# Altium schematic symbol library DAQ.SchLib: 78 symbols (part 2 of 3)
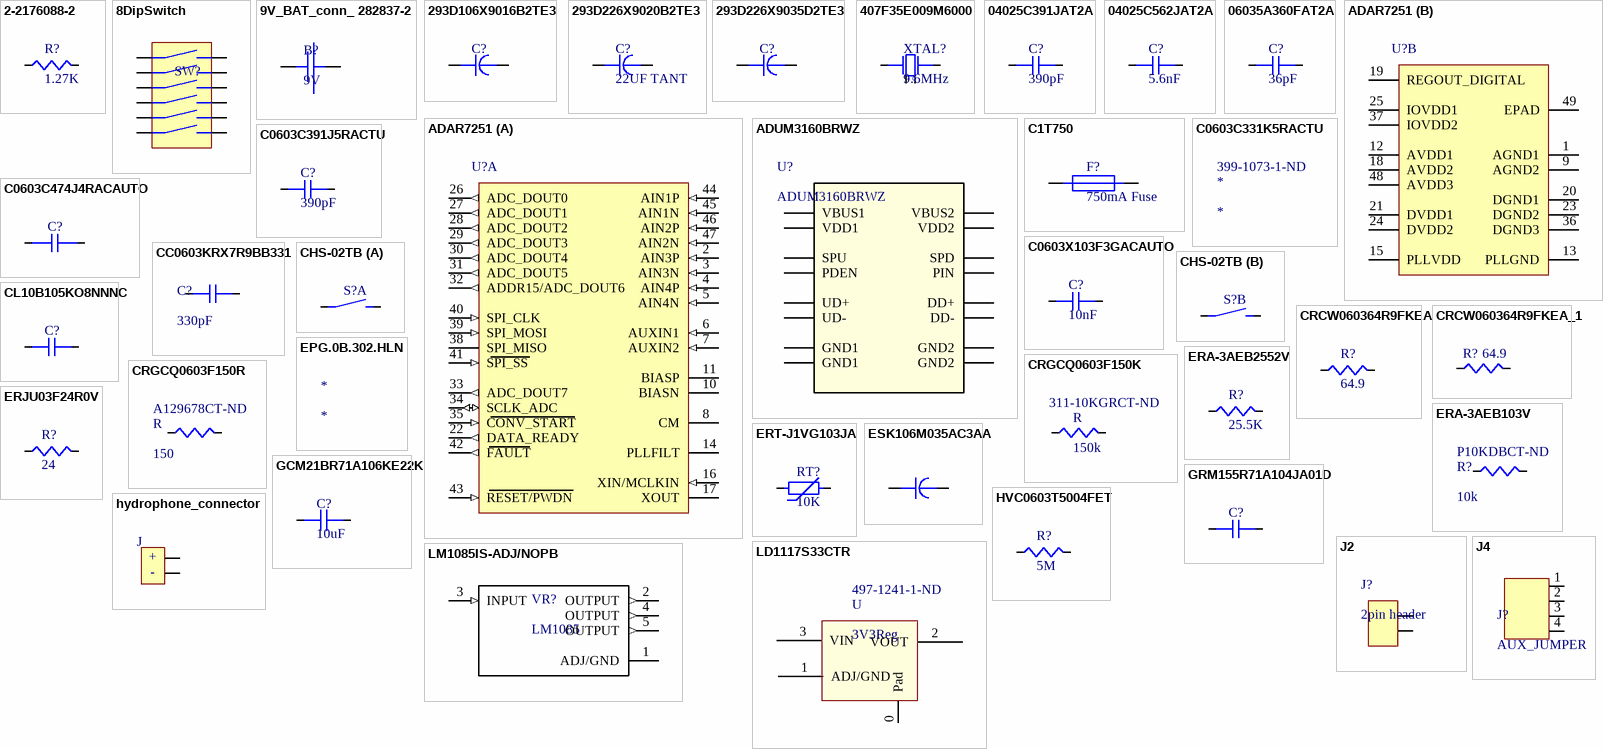
[diagram p3: symbols 2-2176088-2 to LM1085IS-ADJ/NOPB]

## ERJU03F24R0V
designator R?, comment 24
Thick Film Resistors - SMD 0603 1% 24ohm Anti-Sulfur AEC-Q200; Manufacturer 1: Panasonic; Manufacturer Part Number 1: ERJU03F24R0V; Temperature Coefficient: 100ppm/°C; Current Rating: 1A; Voltage Rating (DC): 75V; Power Rating: 100mW; Resistance: 24R; Supplier 1: Digi-Key; Supplier Part Number 1: 10-ERJ-U03F24R0VCT-ND; RoHS: Yes; Category: Chip SMD Resistors; Stock 1: 298; Pricing 1: 1=0.13000, 10=0.11400, 100=0.04400, 1000=0.01936, 2500=0.01672 (USD); Case/Package: 0603; Case Code (Imperial): 0603; Case Code (Metric): 1608; Weight: 7.1E-05oz; Min Operating Temperature: -55°C; Max Operating Temperature: 155°C; Tolerance: 1%; Voltage Rating: 75V; Packaging: Tape and Reel; Package Quantity: 5000; Resistor Type: Thick Film; Termination: SMD/SMT; Length: 1.6mm; Width: 0.8mm; Height: 0.45mm; Depth: 0.8mm; REACH SVHC: No SVHC; ComponentLink1URL: https://datasheet.ciiva.com/24124/ras-erj-u-267552-24124922.pdf?src-supplier=Mouser; ComponentLink1Description: https://datasheet.ciiva.com/24124/ras-erj-u-267552-24124922.pdf?src-supplier=Mouser; ComponentLink2URL: https://datasheet.ciiva.com/6201/1638979-6201577.pdf?src-supplier=Farnell; ComponentLink2Description: https://datasheet.ciiva.com/6201/1638979-6201577.pdf?src-supplier=Farnell
footprint C0603
pins: 1, 2

## ERT-J1VG103JA
designator RT?, comment 10K
Thermistor NTC 10KOhm 5% 2-Pin 0603 Punched Carrier T/R; Manufacturer 1: Panasonic; Manufacturer Part Number 1: ERT-J1VG103JA; Max Power Dissipation: 100mW; Accuracy: 1%; Resistance: 10kR; Supplier 1: Digi-Key; Supplier Part Number 1: P12014CT-ND; Stock 1: 47318; Pricing 1: 1=0.15000, 5=0.14600, 10=0.13000, 25=0.12000, 50=0.09600, 100=0.08240, 500=0.07208, 1000=0.06178 (USD); RoHS: Yes; Mount: Surface Mount; Case/Package: 0603; Number of Pins: 2; Case Code (Metric): 1608; Case Code (Imperial): 0603; Min Operating Temperature: -40°C; Max Operating Temperature: 125°C; Termination: SMD/SMT; Packaging: Tape and Reel; Tolerance: 5%; Package Quantity: 4000; Length: 1.6mm; Depth: 0.8mm; Width: 800um; Radiation Hardening: No; Lead Free: Lead Free; REACH SVHC: No SVHC; ComponentLink1URL: https://datasheet.ciiva.com/1303/1314428-1303168.pdf?src-supplier=Farnell; ComponentLink1Description: https://datasheet.ciiva.com/1303/1314428-1303168.pdf?src-supplier=Farnell; ComponentLink2URL: https://datasheet.ciiva.com/30067/aua0000ce1-30067157.pdf?src-supplier=Onlinecomponents.com; ComponentLink2Description: https://datasheet.ciiva.com/30067/aua0000ce1-30067157.pdf?src-supplier=Onlinecomponents.com; ComponentLink3URL: https://datasheet.ciiva.com/46376/1314428-46376550.pdf?src-supplier=Element14; ComponentLink3Description: https://datasheet.ciiva.com/46376/1314428-46376550.pdf?src-supplier=Element14; ComponentLink4URL: https://datasheet.ciiva.com/2848/aua0000ce1-2848556.pdf?src-supplier=Digi-Key; ComponentLink4Description: https://datasheet.ciiva.com/2848/aua0000ce1-2848556.pdf?src-supplier=Digi-Key; ComponentLink5URL: https://datasheet.ciiva.com/16394/aua0000ce1-16394028.pdf?src-supplier=Future+Electronics; ComponentLink5Description: https://datasheet.ciiva.com/16394/aua0000ce1-16394028.pdf?src-supplier=Future+Electronics; ComponentLink6URL: https://datasheet.ciiva.com/46388/1314428-46388812.pdf?src-supplier=Element14; ComponentLink6Description: https://datasheet.ciiva.com/46388/1314428-46388812.pdf?src-supplier=Element14; ComponentLink7URL: https://datasheet.ciiva.com/2848/aua0000ce1-2848557.pdf?src-supplier=Digi-Key; ComponentLink7Description: https://datasheet.ciiva.com/2848/aua0000ce1-2848557.pdf?src-supplier=Digi-Key; ComponentLink8URL: https://datasheet.ciiva.com/2848/aua0000ce1-2848558.pdf?src-supplier=Digi-Key; ComponentLink8Description: https://datasheet.ciiva.com/2848/aua0000ce1-2848558.pdf?src-supplier=Digi-Key; ComponentLink9URL: https://datasheet.ciiva.com/3280/aua0000ce1-3280462.pdf?src-supplier=Avnet; ComponentLink9Description: https://datasheet.ciiva.com/3280/aua0000ce1-3280462.pdf?src-supplier=Avnet
footprint R0603
pins: 1, 2

## ESK106M035AC3AA
designator ?, comment 10uF  (value not drawn)
CAP ALUM 10UF 20% 35V RADIAL; Dielectric Material: Aluminium; Voltage Rating: 16V; Ripple Current: 23mA; Leakage Current: 3uA; Life (Hours): 2000Hour; Dissipation Factor: 0.16%; RoHS: Yes; Mount: Surface Mount,PCB; Case/Package: Radial; Number of Pins: 2; Weight: 0.01lb; Min Operating Temperature: -40°C; Max Operating Temperature: 85°C; Package Quantity: 1; Capacitance: 10uF; Tolerance: 20%; Packaging: Tape and Reel; Voltage Rating (DC): 16V; Ripple Current (AC): 23mA; Termination: SMD/SMT; Voltage: 16V; Diameter: 4mm; Length: 5.4mm; Height: 5.4mm; Width: 4.3mm; Height - Seated (Max): 0.213inch; Radiation Hardening: No; REACH SVHC: No SVHC; Lead Free: Lead Free; ComponentLink1Description: digikey; ComponentLink1URL: https://www.digikey.com/product-detail/en/kemet/ESK106M035AC3AA/399-6598-ND/3083013
footprint ESK106M035AC3AA; pin to pad 5>2
pins: 1, 5

## GCM21BR71A106KE22K
designator C?, comment 10uF
CAP CER 10UF 10V X7R 0805; Manufacturer 1: Murata; Manufacturer Part Number 1: GCM21BR71A106KE22K; Tolerance: 10%; Supplier 1: Digi-Key; Supplier Part Number 1: 490-14531-1-ND; Stock 1: 78878; Pricing 1: 1=0.57000, 10=0.40300, 100=0.26540, 500=0.19658, 1000=0.16709, 2500=0.15726, 5000=0.14744 (USD); RoHS: Yes; Mount: Surface Mount; Case/Package: 0805; Weight: 0.000335oz; Case Code (Imperial): 0805; Case Code (Metric): 2012; Min Operating Temperature: -55°C; Max Operating Temperature: 125°C; Packaging: Tape and Reel; Capacitance: 10uF; Voltage Rating: 10V; Dielectric: X7R; Termination: SMD/SMT; Voltage Rating (DC): 10V; Package Quantity: 10000; Length: 0.079inch; Height: 1.25mm; Width: 1.25mm; Thickness: 0.055inch; Ratings: AEC-Q200; ComponentLink1URL: http://www.mouser.com/ds/2/281/c03e-806517.pdf?src-supplier=Mouser; ComponentLink1Description: http://www.mouser.com/ds/2/281/c03e-806517.pdf?src-supplier=Mouser; ComponentLink2URL: http://search.murata.co.jp/Ceramy/image/img/A01X/G101/ENG/GCM21BR71A106KE22-01.pdf?src-supplier=Digi-Key; ComponentLink2Description: http://search.murata.co.jp/Ceramy/image/img/A01X/G101/ENG/GCM21BR71A106KE22-01.pdf?src-supplier=Digi-Key; ComponentLink3URL: http://search.murata.co.jp/Ceramy/image/img/A01X/partnumbering_e_02.pdf?src-supplier=Digi-Key; ComponentLink3Description: http://search.murata.co.jp/Ceramy/image/img/A01X/partnumbering_e_02.pdf?src-supplier=Digi-Key
footprint C0805
pins: 1, 2

## GRM155R71A104JA01D
designator C?, comment .1uF  (value not drawn)
0402 0.1 uF 10 V ±5% Tolerance X7R SMT Multilayer Ceramic Capacitor; Manufacturer 1: Murata; Manufacturer Part Number 1: GRM155R71A104JA01D; Capacitance: 100nF; Voltage Rating: 10V; Supplier 1: Digi-Key; Supplier Part Number 1: 490-10777-1-ND; Stock 1: 1113659; Pricing 1: 1=0.10000, 10=0.02800, 100=0.01240, 500=0.00886, 1000=0.00696, 2500=0.00632, 5000=0.00582 (USD); RoHS: Yes; Mount: Surface Mount; Case/Package: 0402; Case Code (Imperial): 0402; Case Code (Metric): 1005; Min Operating Temperature: -55°C; Max Operating Temperature: 125°C; Tolerance: 5%; Packaging: Tape and Reel; Voltage Rating (DC): 10V; Package Quantity: 10000; Dielectric: X7R; Termination: SMD/SMT; Length: 1mm; Height: 0.5mm; Width: 0.02inch; Thickness: 0.022inch; Depth: 0.5mm; Radiation Hardening: No; Lead Free: Lead Free; ComponentLink1URL: https://datasheet.ciiva.com/5411/product-5411135.pdf?src-supplier=Mouser; ComponentLink1Description: https://datasheet.ciiva.com/5411/product-5411135.pdf?src-supplier=Mouser; ComponentLink2URL: https://datasheet.ciiva.com/11618/c02e-11618821.pdf?src-supplier=Avnet; ComponentLink2Description: https://datasheet.ciiva.com/11618/c02e-11618821.pdf?src-supplier=Avnet
footprint C0402
pins: 1, 2

## HVC0603T5004FET
designator R?, comment 5M
RES SMD 5M OHM 1% 1/10W 0603; Manufacturer 1: Vishay Dale; Manufacturer Part Number 1: TNPW06031K00BEEA; Resistance: 1kR; Temperature Coefficient: 25ppm/°C; Power Rating: 100mW; Voltage Rating: 75V; Stock 1: 92047; Pricing 1: 1=0.65000, 10=0.46200, 100=0.24020, 1000=0.12936, 2500=0.12760 (USD); RoHS: Yes; Mount: Surface Mount; Case/Package: 0603; Weight: 7.1E-05oz; Contact Plating: Tin; Case Code (Metric): 1608; Case Code (Imperial): 0603; Min Operating Temperature: -55°C; Max Operating Temperature: 125°C; Tolerance: 1%; Composition: Thin Film; Packaging: Tape and Reel; Package Quantity: 1; Number of Terminations: 2; Termination: SMD/SMT; Military Standard: Not; Max Power Dissipation: 100mW; Voltage Rating (DC): 75V; Features: Moisture Resistant,Automotive AEC-Q200,Anti-Sulfur; Length: 1.6mm; Height: 0.45mm; Width: 0.033inch; Depth: 0.85mm; Radiation Hardening: No; REACH SVHC: Unknown; Lead Free: Lead Free; ComponentLink1URL: https://datasheet.ciiva.com/2528/tnpw-e3-2528472.pdf?src-supplier=Digi-Key; ComponentLink1Description: https://datasheet.ciiva.com/2528/tnpw-e3-2528472.pdf?src-supplier=Digi-Key; ComponentLink2URL: https://datasheet.ciiva.com/2528/tnpw-e3-2528473.pdf?src-supplier=Digi-Key; ComponentLink2Description: https://datasheet.ciiva.com/2528/tnpw-e3-2528473.pdf?src-supplier=Digi-Key; ComponentLink3URL: https://datasheet.ciiva.com/9112/tnpw-e3-9112138.pdf?src-supplier=Avnet; ComponentLink3Description: https://datasheet.ciiva.com/9112/tnpw-e3-9112138.pdf?src-supplier=Avnet; ComponentLink4URL: https://datasheet.ciiva.com/16391/tnpw-e3-16391675.pdf?src-supplier=Future+Electronics; ComponentLink4Description: https://datasheet.ciiva.com/16391/tnpw-e3-16391675.pdf?src-supplier=Future+Electronics; ComponentLink5URL: https://datasheet.ciiva.com/9112/tnpw-e3-9112141.pdf?src-supplier=Avnet; ComponentLink5Description: https://datasheet.ciiva.com/9112/tnpw-e3-9112141.pdf?src-supplier=Avnet; ComponentLink6URL: https://datasheet.ciiva.com/16782/70201627-16782047.pdf?src-supplier=Allied+Electronics; ComponentLink6Description: https://datasheet.ciiva.com/16782/70201627-16782047.pdf?src-supplier=Allied+Electronics; Supplier 1: Digi-Key; Supplier Part Number 1: HVC0603T5004FETCT-ND
footprint R0603
pins: 1, 2

## hydrophone_connector
designator J, comment J  (value not drawn)
Supplier 1: Digi-Key; Supplier Part Number 1: WM5378-ND; Supplier 2: Digi-Key; Supplier Part Number 2: WM8552-ND
footprint hydrophones_sma_conn
footprint 0731310240 (CONN BNC RCPT R/A 50 OHM PCB)
footprint EPC.00.250.NTN (NIM-CAMAC CD/N 549 Connector Receptacle, Female Socket 50Ohm Through Hole Solder)
pins: 1, 2
text: +; -

## J2
designator J?, comment 2pin header
footprint HEADERPINS_2x1
pins: 1, 2

## J4
designator J?, comment AUX_JUMPER
Connector Type: USB; Number of Contacts: 5; Gender: Receptacle; USB Standard: USB 2.0; Current Rating: 1.8A; Mating Cycles: 10000; Supplier 1: Digi-Key; Supplier Part Number 1: SAM10843-ND; Supplier 2: Digi-Key; Supplier Part Number 2: H125270CT-ND; Manufacturer 2: Hirose; Manufacturer Part Number 2: ZX62-B-5PA(33); RoHS: Yes; Category: Connectors; Stock 2: 13469; Pricing 2: 1=0.84000, 10=0.79200, 25=0.71280, 50=0.63360, 100=0.60720, 250=0.55440, 500=0.52800, 1000=0.43560 (USD); Mount: Surface Mount,Horizontal; Contact Material: Copper Alloy; Contact Plating: Gold; Packaging: Tape and Reel; Orientation: Right Angle; REACH SVHC: Unknown; Lead Free: Lead Free; ComponentLink1URL: http://www.farnell.com/datasheets/2691174.pdf?src-supplier=Farnell; ComponentLink1Description: http://www.farnell.com/datasheets/2691174.pdf?src-supplier=Farnell; ComponentLink2URL: http://www.farnell.com/datasheets/2691174.pdf?src-supplier=Element14; ComponentLink2Description: http://www.farnell.com/datasheets/2691174.pdf?src-supplier=Element14; ComponentLink3URL: https://www.hirose.com/product/en/download_file/key_name/ZX62-B-5PA%2833%29/category/Specification%20Sheet/doc_file_id/87473/?file_category_id=9&item_id=02420033833&is_series=&src-supplier=Digi-Key; ComponentLink3Description: https://www.hirose.com/product/en/download_file/key_name/ZX62-B-5PA%2833%29/category/Specification%20Sheet/doc_file_id/87473/?file_category_id=9&item_id=02420033833&is_series=&src-supplier=Digi-Key; ComponentLink4URL: http://www.farnell.com/datasheets/2060515.pdf?src-supplier=Element14; ComponentLink4Description: http://www.farnell.com/datasheets/2060515.pdf?src-supplier=Element14; ComponentLink5URL: http://www.farnell.com/datasheets/2691174.pdf?src-supplier=Newark; ComponentLink5Description: http://www.farnell.com/datasheets/2691174.pdf?src-supplier=Newark
footprint HEADERPINS_2x2
footprint headerPins_4x1
pins: 1 GND, 2 3V3, 3 SDA, 4 SCL

## LD1117S33CTR
designator U, comment 3V3Reg  Supplier Part Number 1: 497-1241-1-ND
STMICROELECTRONICS         LD1117S33CTR            Fixed LDO Voltage Regulator, 5.3V to 15V, 1.1V Dropout, 3.3Vout, 950mAout, SOT-223-4; Number of Outputs: 1; Output Voltage: 3.3V; Output Current: 950mA; Max Output Current: 1.3A; Max Power Dissipation: 12W; Input Bias Current: 5mA; Polarity: Positive; Quiescent Current: 10mA; Accuracy: 1%; Supplier 1: Digi-Key; Manufacturer 1: STMicroelectronics; Manufacturer Part Number 1: LD1117S33CTR; Stock 1: 43539; Pricing 1: 1=0.41000, 10=0.35100, 100=0.26180, 500=0.20570, 1000=0.15895 (USD); RoHS: Yes; Mount: Surface Mount; Case/Package: SOT-223; Number of Pins: 4; Weight: 0.01lb; Number of Terminals: 4; Contact Plating: Tin,Matte; Min Operating Temperature: -40°C; Max Operating Temperature: 125°C; Packaging: Tape and Reel; Min Input Voltage: 5.3V; Dropout Voltage: 1.1V; Nominal Output Voltage: 3.3V; Max Input Voltage: 15V; Package Quantity: 1; Max Supply Voltage: 15V; Min Supply Voltage: 3.3V; Number of Regulators: 1; Min Output Voltage: 3.3V; Power Dissipation: 12W; Max Output Voltage: 3.3V; Termination: SMD/SMT; Output Voltage Accuracy: 1%; Output Type: Fixed; Length: 6.5mm; Height: 1.8mm; Width: 3.5mm; Radiation Hardening: No; REACH SVHC: No SVHC; Lead Free: Lead Free; ComponentLink1URL: https://datasheet.ciiva.com/19480/1390223-19480586.pdf?src-supplier=Jameco; ComponentLink1Description: https://datasheet.ciiva.com/19480/1390223-19480586.pdf?src-supplier=Jameco; ComponentLink2URL: https://datasheet.ciiva.com/1511/1776449-1511572.pdf?src-supplier=Element14; ComponentLink2Description: https://datasheet.ciiva.com/1511/1776449-1511572.pdf?src-supplier=Element14; ComponentLink3URL: https://datasheet.ciiva.com/16392/cd00000544-16392069.pdf?src-supplier=Future+Electronics; ComponentLink3Description: https://datasheet.ciiva.com/16392/cd00000544-16392069.pdf?src-supplier=Future+Electronics; ComponentLink4URL: https://datasheet.ciiva.com/2041/cd00000544-2041932.pdf?src-supplier=Digi-Key; ComponentLink4Description: https://datasheet.ciiva.com/2041/cd00000544-2041932.pdf?src-supplier=Digi-Key; ComponentLink5URL: https://datasheet.ciiva.com/7992/1776449-7992620.pdf?src-supplier=Element14; ComponentLink5Description: https://datasheet.ciiva.com/7992/1776449-7992620.pdf?src-supplier=Element14; ComponentLink6URL: https://datasheet.ciiva.com/2041/cd00000544-2041933.pdf?src-supplier=Digi-Key; ComponentLink6Description: https://datasheet.ciiva.com/2041/cd00000544-2041933.pdf?src-supplier=Digi-Key; ComponentLink7URL: https://datasheet.ciiva.com/2041/cd00000544-2041934.pdf?src-supplier=Digi-Key; ComponentLink7Description: https://datasheet.ciiva.com/2041/cd00000544-2041934.pdf?src-supplier=Digi-Key
footprint *SOT223; pin to pad 0>4
pins: 0 Pad, 1 ADJ/GND (power), 2 VOUT (power), 3 VIN (power)

## LM1085IS-ADJ/NOPB
designator VR?, comment LM1085
TEXAS INSTRUMENTS         LM1085IS-ADJ/NOPB            LDO Voltage Regulator, Adjustable, 2.6V to 27V in, 1.3V drop, 1.2V to 15V/3A out, TO-263-3; Manufacturer 1: TI National Semiconductor; Number of Outputs: 1; Max Input Voltage: 29V; Max Output Current: 3A; Output Voltage: 15V; Quiescent Current: 10mA; Polarity: Positive; Min Current Limit: 3.2A; Reference Voltage: 1.262V; Supplier 1: Digi-Key; Supplier Part Number 1: LM1085IS-ADJ/NOPB-ND; Manufacturer Part Number 1: LM1085IS-ADJ/NOPB; Stock 1: 3132; Pricing 1: 1=2.36000, 10=2.11700, 25=1.99760, 100=1.70190, 500=1.39826, 1000=1.15855, 2500=1.07865, 5000=1.03870 (USD); RoHS: Yes; Mount: Surface Mount; Case/Package: TO-263; Number of Pins: 3; Weight: 0.25lb; Contact Plating: Tin,Matte; Min Operating Temperature: -40°C; Max Operating Temperature: 125°C; Packaging: Rail/Tube; Min Input Voltage: 2.6V; Output Current: 3A; Output Type: Adjustable; Dropout Voltage: 1.3V; Package Quantity: 45; Number of Regulators: 1; Current Rating: 3A; Min Output Voltage: 1.2V; Max Output Voltage: 15V; Length: 10.16mm; Height: 4.57mm; Width: 8.64mm; Radiation Hardening: No; Lead Free: Contains Lead; REACH SVHC: No SVHC; ComponentLink1URL: https://datasheet.ciiva.com/15111/getdatasheetpartid-42877-15111009.pdf?src-supplier=Verical; ComponentLink1Description: https://datasheet.ciiva.com/15111/getdatasheetpartid-42877-15111009.pdf?src-supplier=Verical; ComponentLink2URL: https://datasheet.ciiva.com/19473/835622-19473869.pdf?src-supplier=Jameco; ComponentLink2Description: https://datasheet.ciiva.com/19473/835622-19473869.pdf?src-supplier=Jameco; ComponentLink3URL: https://datasheet.ciiva.com/1511/1886048-1511680.pdf?src-supplier=Element14; ComponentLink3Description: https://datasheet.ciiva.com/1511/1886048-1511680.pdf?src-supplier=Element14; ComponentLink4URL: https://datasheet.ciiva.com/3223/lm1085-3223479.pdf?src-supplier=Avnet; ComponentLink4Description: https://datasheet.ciiva.com/3223/lm1085-3223479.pdf?src-supplier=Avnet; ComponentLink5URL: https://datasheet.ciiva.com/6595/lm1085-6595273.pdf?src-supplier=Digi-Key; ComponentLink5Description: https://datasheet.ciiva.com/6595/lm1085-6595273.pdf?src-supplier=Digi-Key
footprint TO254P1435X464-4N
pins: 1 ADJ/GND, 2 OUTPUT (out), 3 INPUT (in), 4 OUTPUT (out), 5 OUTPUT (out)

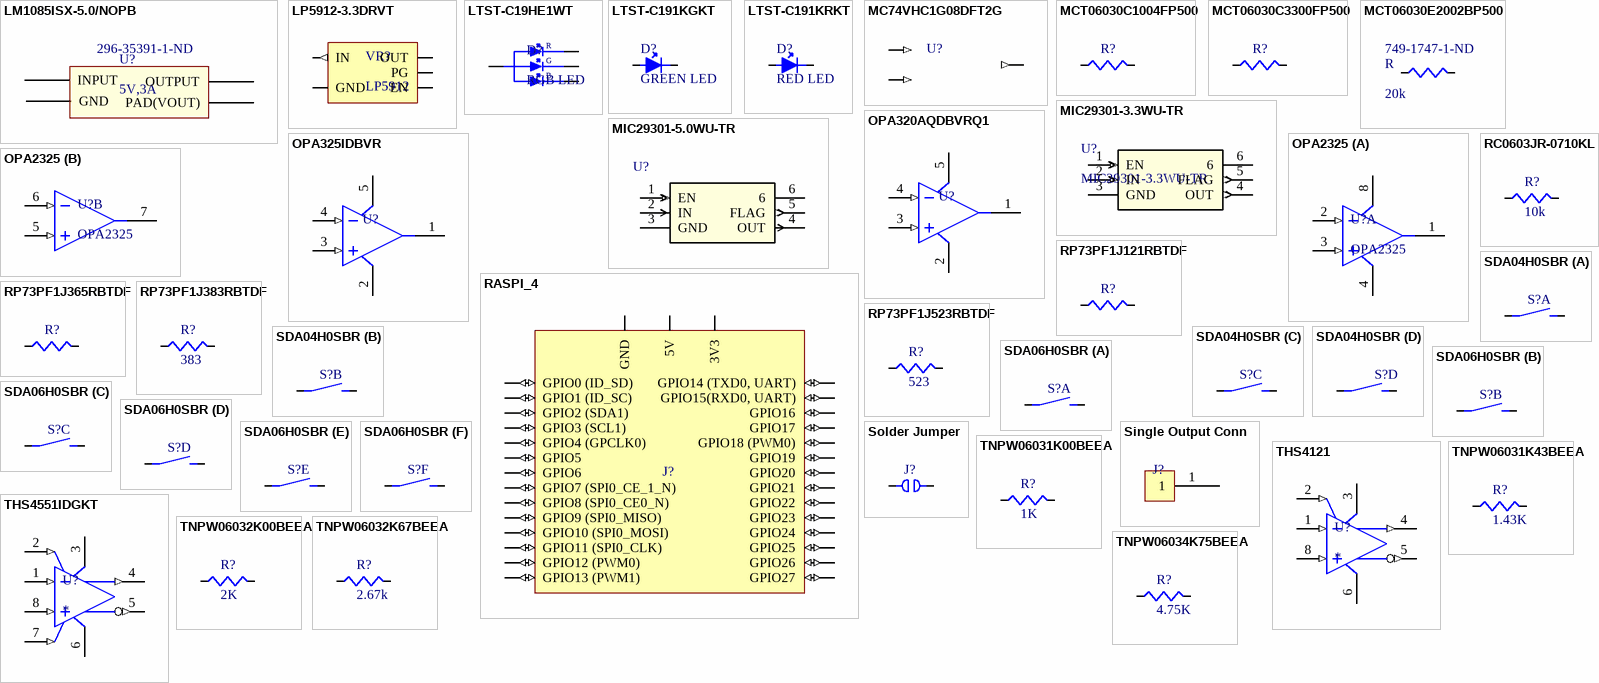
[diagram p1: symbols LM1085ISX-5.0/NOPB to TNPW06034K75BEEA]

## LM1085ISX-5.0/NOPB
designator U?, comment 5V,3A  Supplier Part Number 1: 296-35391-1-ND
LDO Regulator Pos 5V 3A 4-Pin(3+Tab) TO-263 T/R; Manufacturer 1: TI National Semiconductor; Manufacturer Part Number 1: LM1085ISX-5.0/NOPB; Number of Outputs: 1; Min Input Voltage: 2.6V; Max Input Voltage: 25V; Quiescent Current: 10mA; Polarity: Positive; Output Type: Fixed; Dropout Voltage: 1.3V; Min Current Limit: 3.2A; Supplier 1: Digi-Key; Stock 1: 2741; Pricing 1: 1=1.97000, 10=1.77300, 100=1.42500 (USD); RoHS: Yes; Mount: Surface Mount; Case/Package: TO-263; Number of Pins: 3; Contact Plating: Tin; Min Operating Temperature: -40°C; Max Operating Temperature: 125°C; Output Voltage: 5V; Max Output Current: 3A; Packaging: Tape and Reel; Output Current: 3A; Package Quantity: 500; Number of Regulators: 1; Nominal Output Voltage: 5V; Radiation Hardening: No; Lead Free: Contains Lead; REACH SVHC: No SVHC; ComponentLink1URL: https://datasheet.ciiva.com/41457/001013600-da-01-en-ic-reg-l-lm1085isx-5-0-nopb-to-263-3-tid-41457355.pdf?src-supplier=Conrad; ComponentLink1Description: https://datasheet.ciiva.com/41457/001013600-da-01-en-ic-reg-l-lm1085isx-5-0-nopb-to-263-3-tid-41457355.pdf?src-supplier=Conrad; ComponentLink2URL: https://datasheet.ciiva.com/6582/lm1085-6582713.pdf?src-supplier=Digi-Key; ComponentLink2Description: https://datasheet.ciiva.com/6582/lm1085-6582713.pdf?src-supplier=Digi-Key; ComponentLink3URL: https://datasheet.ciiva.com/3223/lm1085-3223481.pdf?src-supplier=Avnet; ComponentLink3Description: https://datasheet.ciiva.com/3223/lm1085-3223481.pdf?src-supplier=Avnet
footprint *TO254P1435X464-4N_5V; pin to pad 0>4
pins: 0 PAD(VOUT) (power), 1 GND (power), 2 OUTPUT (power), 3 INPUT (power)

## LP5912-3.3DRVT
designator VR?, comment LP5912
IC REG LINEAR 3.3V 500MA 6SON; Manufacturer 1: Texas Instruments; Manufacturer Part Number 1: LP5912-3.3DRVT; Dropout Voltage: 950mV; Quiescent Current: 30uA; Number of Regulators: 1; Supplier 1: Digi-Key; Supplier Part Number 1: 296-44153-1-ND; Stock 1: 2229; Pricing 1: 1=1.38000, 10=1.23100, 100=0.95940 (USD); RoHS: Yes; Mount: Surface Mount; Number of Pins: 6; Min Operating Temperature: -40°C; Max Operating Temperature: 125°C; Output Current: 500mA; Packaging: Tape and Reel; Output Voltage: 3.3V; Lead Free: Lead Free; ComponentLink1URL: http://www.ti.com/lit/ds/symlink/lp5912.pdf?src-supplier=Digi-Key; ComponentLink1Description: http://www.ti.com/lit/ds/symlink/lp5912.pdf?src-supplier=Digi-Key; ComponentLink2URL: http://www.ti.com/lit/ds/symlink/lp5912.pdf?src-supplier=Farnell; ComponentLink2Description: http://www.ti.com/lit/ds/symlink/lp5912.pdf?src-supplier=Farnell; ComponentLink3URL: http://www.ti.com/general/docs/lit/getliterature.tsp?genericPartNumber=LP5912&amp;&amp;fileType=pdf&src-supplier=Element14; ComponentLink3Description: http://www.ti.com/general/docs/lit/getliterature.tsp?genericPartNumber=LP5912&amp;&amp;fileType=pdf&src-supplier=Element14
footprint *SON65P200X200X80-7N_LP5912-3.3DRVT(Primary)
pins: 1 OUT, 3 PG, 4 EN, 5 GND, 6 IN (out)

## LTST-C19HE1WT
designator D?, comment RGB LED
Lite-On LTST-C19HE1WT, LTST Series 3 RGB LED, 470 / 525 / 624 nm 3-Pin, Rectangle Lens SMD package; Manufacturer 1: Vishay Lite-On; Color: Blue,Green,Red; Lens Color: White; Forward Current: 20mA; Forward Voltage: 3.35V; Luminous Intensity: 180mcd; Viewing Angle: 130°; Lens Style: Diffused,Colorless,Rectangular; Lens Transparency: Diffused; Dominant Wavelength: 470nm; Number of Elements: 3; Reverse Voltage: 5V; Supplier 1: Digi-Key; Supplier Part Number 1: 160-2162-1-ND; Manufacturer Part Number 1: LTST-C19HE1WT; Stock 1: 98926; Pricing 1: 1=0.56000, 10=0.40500, 100=0.26440, 500=0.19008, 1000=0.14875 (USD); RoHS: Yes; Mount: Surface Mount; Case/Package: 0606; Number of Pins: 4; Case Code (Metric): 1616; Case Code (Imperial): 0606; Min Operating Temperature: -20°C; Max Operating Temperature: 80°C; Packaging: Tape and Reel; Package Quantity: 3000; Test Current: 20mA; Number of LEDs: 3; Length: 1.6mm; Height: 0.35mm; Width: 1.6mm; Depth: 1.6mm; Radiation Hardening: No; Lead Free: Lead Free; ComponentLink1URL: https://datasheet.ciiva.com/11773/0900766b80dc0566-11773828.pdf?src-supplier=RSComponents; ComponentLink1Description: https://datasheet.ciiva.com/11773/0900766b80dc0566-11773828.pdf?src-supplier=RSComponents; ComponentLink2URL: https://datasheet.ciiva.com/41805/s-110-ltst-c19he1wt-41805918.pdf?src-supplier=Digi-Key; ComponentLink2Description: https://datasheet.ciiva.com/41805/s-110-ltst-c19he1wt-41805918.pdf?src-supplier=Digi-Key
footprint rgb_led_LTST-C19HE1WT
pins: 1 R-, 2 B-, 3 G-, 4 +
text: R; G; B

## LTST-C191KGKT
designator D?, comment GREEN LED
LED Uni-Color Green 574nm 2-Pin Chip LED T/R; Manufacturer 1: Vishay Lite-On; Manufacturer Part Number 1: LTST-C191KGKT; Lens Color: Colorless; Luminous Intensity: 35mcd; Viewing Angle: 130°; Forward Voltage: 2V; Dominant Wavelength: 571nm; Test Current: 20mA; Lens Transparency: Clear; Lens Style: Diffused,Colorless,Rectangular,Clear; Forward Current: 30mA; Number of Elements: 1; Power Dissipation: 75mW; Reverse Voltage: 5V; Supplier 1: Digi-Key; Supplier Part Number 1: 160-1446-1-ND; Stock 1: 1002642; Pricing 1: 1=0.28000, 10=0.20100, 100=0.09540, 500=0.06364, 1000=0.04984, 2500=0.04878 (USD); RoHS: Yes; Mount: Surface Mount; Case/Package: 0603; Number of Pins: 2; Color: Green; Case Code (Metric): 1608; Case Code (Imperial): 0603; Min Operating Temperature: -55°C; Max Operating Temperature: 85°C; Packaging: Tape and Reel; Package Quantity: 1; Wavelength: 574nm; Illumination Color: Green; Number of LEDs: 1; Power Rating: 75mW; Length: 1.6mm; Height: 0.55mm; Width: 0.8mm; Depth: 0.8mm; Radiation Hardening: No; Lead Free: Lead Free; ComponentLink1URL: https://datasheet.ciiva.com/12400/100-ltst-c191kgkt-53586-12400818.pdf?src-supplier=Mouser; ComponentLink1Description: https://datasheet.ciiva.com/12400/100-ltst-c191kgkt-53586-12400818.pdf?src-supplier=Mouser; ComponentLink2URL: https://datasheet.ciiva.com/11773/0900766b80dc02b1-11773629.pdf?src-supplier=RSComponents; ComponentLink2Description: https://datasheet.ciiva.com/11773/0900766b80dc02b1-11773629.pdf?src-supplier=RSComponents; ComponentLink3URL: https://datasheet.ciiva.com/16215/ltst-c191kgkt-16215151.pdf?src-supplier=Future+Electronics; ComponentLink3Description: https://datasheet.ciiva.com/16215/ltst-c191kgkt-16215151.pdf?src-supplier=Future+Electronics; ComponentLink4URL: https://datasheet.ciiva.com/2109/s-110-ltst-c191kgkt-2109973.pdf?src-supplier=Digi-Key; ComponentLink4Description: https://datasheet.ciiva.com/2109/s-110-ltst-c191kgkt-2109973.pdf?src-supplier=Digi-Key; ComponentLink5URL: https://datasheet.ciiva.com/2109/s-110-ltst-c191kgkt-2109974.pdf?src-supplier=Digi-Key; ComponentLink5Description: https://datasheet.ciiva.com/2109/s-110-ltst-c191kgkt-2109974.pdf?src-supplier=Digi-Key; ComponentLink6URL: https://datasheet.ciiva.com/2109/s-110-ltst-c191kgkt-2109975.pdf?src-supplier=Digi-Key; ComponentLink6Description: https://datasheet.ciiva.com/2109/s-110-ltst-c191kgkt-2109975.pdf?src-supplier=Digi-Key; ComponentLink7URL: https://datasheet.ciiva.com/15223/getdatasheetpartid-103913-15223276.pdf?src-supplier=Verical; ComponentLink7Description: https://datasheet.ciiva.com/15223/getdatasheetpartid-103913-15223276.pdf?src-supplier=Verical
footprint LTST-C191KGKT_green_0603
pins: 1, 2

## LTST-C191KRKT
designator D?, comment RED LED
LED; SMD; 0603; red; 18-54mcd; 1.6x0.8x0.55mm; 130°; 2÷2.4V; 20mA; Manufacturer 1: Vishay Lite-On; Manufacturer Part Number 1: LTST-C191KRKT; Lens Color: Colorless; Power Rating: 75mW; Luminous Intensity: 54mcd; Forward Voltage: 2V; Lens Style: Clear,Diffused,Colorless,Rectangular; Forward Current: 30mA; Dominant Wavelength: 631nm; Lens Transparency: Clear; Number of Elements: 1; Wavelength: 639nm; Reverse Voltage: 5V; Supplier 1: Digi-Key; Supplier Part Number 1: 160-1447-1-ND; Stock 1: 499953; Pricing 1: 1=0.28000, 10=0.20100, 100=0.09540, 500=0.06364, 1000=0.04984, 2500=0.04878 (USD); RoHS: Yes; Mount: Surface Mount; Case/Package: 0603; Number of Pins: 2; Color: Red; Case Code (Metric): 1608; Case Code (Imperial): 0603; Min Operating Temperature: -55°C; Max Operating Temperature: 85°C; Packaging: Tape and Reel; Viewing Angle: 130°; Package Quantity: 1; Illumination Color: Red; Test Current: 20mA; Power Dissipation: 75mW; Number of LEDs: 1; Voltage: 2V; Length: 1.6mm; Height: 0.55mm; Width: 0.8mm; Depth: 0.8mm; Radiation Hardening: No; Lead Free: Lead Free; ComponentLink1URL: https://datasheet.ciiva.com/11773/0900766b80dc02b2-11773601.pdf?src-supplier=RSComponents; ComponentLink1Description: https://datasheet.ciiva.com/11773/0900766b80dc02b2-11773601.pdf?src-supplier=RSComponents; ComponentLink2URL: https://datasheet.ciiva.com/16212/ltst-c191krkt-16212419.pdf?src-supplier=Future+Electronics; ComponentLink2Description: https://datasheet.ciiva.com/16212/ltst-c191krkt-16212419.pdf?src-supplier=Future+Electronics; ComponentLink3URL: https://datasheet.ciiva.com/15117/getdatasheetpartid-141922-15117737.pdf?src-supplier=Verical; ComponentLink3Description: https://datasheet.ciiva.com/15117/getdatasheetpartid-141922-15117737.pdf?src-supplier=Verical; ComponentLink4URL: https://datasheet.ciiva.com/12400/lite-on-ltst-c191krkt-190135-12400910.pdf?src-supplier=Mouser; ComponentLink4Description: https://datasheet.ciiva.com/12400/lite-on-ltst-c191krkt-190135-12400910.pdf?src-supplier=Mouser; ComponentLink5URL: https://datasheet.ciiva.com/2109/s-110-ltst-c191krkt-2109970.pdf?src-supplier=Digi-Key; ComponentLink5Description: https://datasheet.ciiva.com/2109/s-110-ltst-c191krkt-2109970.pdf?src-supplier=Digi-Key; ComponentLink6URL: https://datasheet.ciiva.com/2109/s-110-ltst-c191krkt-2109971.pdf?src-supplier=Digi-Key; ComponentLink6Description: https://datasheet.ciiva.com/2109/s-110-ltst-c191krkt-2109971.pdf?src-supplier=Digi-Key; ComponentLink7URL: https://datasheet.ciiva.com/2109/s-110-ltst-c191krkt-2109972.pdf?src-supplier=Digi-Key; ComponentLink7Description: https://datasheet.ciiva.com/2109/s-110-ltst-c191krkt-2109972.pdf?src-supplier=Digi-Key
footprint LTST-C191KRKT_red_0603
pins: 1, 2

## MC74VHC1G08DFT2G
designator U?, comment AND  (value not drawn)
AND Gate 1-Element 2-IN CMOS Automotive 5-Pin SC-88A T/R; Manufacturer 1: ON Semiconductor; Manufacturer Part Number 1: MC74VHC1G08DFT2G; Quiescent Current: 1uA; Max Supply Voltage: 5.5V; Min Supply Voltage: 2V; Low Level Output Current: 8mA; Number of Circuits: 1; High Level Output Current: -8mA; Turn-On Delay Time: 16.5ns; Schmitt Trigger Input: No; Propagation Delay: 7.9ns; Number of Inputs: 2; Operating Supply Voltage: 3.75V; Supplier 1: Digi-Key; Supplier Part Number 1: MC74VHC1G08DFT2GOSCT-ND; RoHS: Yes; Category: Logic Gates; Stock 1: 12332; Pricing 1: 1=0.20000, 10=0.16800, 25=0.14040, 100=0.08890, 250=0.06864, 500=0.05850, 1000=0.03978 (USD); Mount: Surface Mount; Case/Package: SC; Number of Pins: 5; Contact Plating: Tin,Matte; Min Operating Temperature: -55°C; Max Operating Temperature: 125°C; Logic Function: AND GATE; Number of Elements: 1; Output Current: 8mA; Number of Gates: 1; Packaging: Tape and Reel; Package Quantity: 1; Number of Outputs: 1; Length: 2.2mm; Width: 1.35mm; Height: 1mm; Radiation Hardening: No; REACH SVHC: No SVHC; Lead Free: Lead Free; Halogen Free: Halogen Free; ComponentLink1URL: https://datasheet.ciiva.com/4819/mc74vhc1g08-d-94763-4819952.pdf?src-supplier=Mouser; ComponentLink1Description: https://datasheet.ciiva.com/4819/mc74vhc1g08-d-94763-4819952.pdf?src-supplier=Mouser; ComponentLink2URL: https://datasheet.ciiva.com/1871/mc74vhc1g08-d-1871334.pdf?src-supplier=Digi-Key; ComponentLink2Description: https://datasheet.ciiva.com/1871/mc74vhc1g08-d-1871334.pdf?src-supplier=Digi-Key; ComponentLink3URL: https://datasheet.ciiva.com/1871/mc74vhc1g08-d-1871335.pdf?src-supplier=Digi-Key; ComponentLink3Description: https://datasheet.ciiva.com/1871/mc74vhc1g08-d-1871335.pdf?src-supplier=Digi-Key; ComponentLink4URL: https://datasheet.ciiva.com/8277/mc74vhc1g08-d-8277815.pdf?src-supplier=Avnet; ComponentLink4Description: https://datasheet.ciiva.com/8277/mc74vhc1g08-d-8277815.pdf?src-supplier=Avnet; ComponentLink5URL: https://datasheet.ciiva.com/1871/mc74vhc1g08-d-1871336.pdf?src-supplier=Digi-Key; ComponentLink5Description: https://datasheet.ciiva.com/1871/mc74vhc1g08-d-1871336.pdf?src-supplier=Digi-Key; ComponentLink6URL: https://datasheet.ciiva.com/16455/mc74vhc1g08-d-16455451.pdf?src-supplier=Future+Electronics; ComponentLink6Description: https://datasheet.ciiva.com/16455/mc74vhc1g08-d-16455451.pdf?src-supplier=Future+Electronics
pins: 17 (in), 18 (in), 19 (out)

## MCT06030C1004FP500
designator R?, comment 1M  (value not drawn)
RES SMD 1M OHM 1% 1/8W 0603; Manufacturer 1: Vishay Beyschlag; Manufacturer Part Number 1: MCT06030C1004FP500; Resistance: 1MR; Power Rating: 100mW; Voltage Rating: 75V; Max Power Dissipation: 125mW; Temperature Coefficient: 50ppm/°C; Supplier 1: Digi-Key; Supplier Part Number 1: MCT0603-1.00M-CFCT-ND; Stock 1: 189743; Pricing 1: 1=0.18000, 10=0.15200, 100=0.05960, 1000=0.02495, 2500=0.02287 (USD); RoHS: Yes; Mount: Surface Mount; Case/Package: 0603; Weight: 7.1E-05oz; Case Code (Metric): 1608; Case Code (Imperial): 0603; Contact Plating: Tin; Min Operating Temperature: -55°C; Max Operating Temperature: 125°C; Package Quantity: 1; Tolerance: 1%; Packaging: Tape and Reel; Composition: Thin Film; Number of Terminations: 2; Termination: SMD/SMT; Military Standard: Not; Voltage Rating (DC): 75V; Length: 0.061inch; Height: 0.022inch; Width: 0.033inch; Depth: 0.85mm; Radiation Hardening: No; REACH SVHC: Unknown; Lead Free: Lead Free; ComponentLink1URL: https://datasheet.ciiva.com/2470/mc-pro-2470384.pdf?src-supplier=Digi-Key; ComponentLink1Description: https://datasheet.ciiva.com/2470/mc-pro-2470384.pdf?src-supplier=Digi-Key; ComponentLink2URL: https://datasheet.ciiva.com/2470/mc-pro-2470385.pdf?src-supplier=Digi-Key; ComponentLink2Description: https://datasheet.ciiva.com/2470/mc-pro-2470385.pdf?src-supplier=Digi-Key; ComponentLink3URL: https://datasheet.ciiva.com/2470/mc-pro-2470386.pdf?src-supplier=Digi-Key; ComponentLink3Description: https://datasheet.ciiva.com/2470/mc-pro-2470386.pdf?src-supplier=Digi-Key; ComponentLink4URL: https://datasheet.ciiva.com/9112/mc-pro-9112535.pdf?src-supplier=Avnet; ComponentLink4Description: https://datasheet.ciiva.com/9112/mc-pro-9112535.pdf?src-supplier=Avnet; ComponentLink5URL: https://datasheet.ciiva.com/16893/mc-pro-16893006.pdf?src-supplier=Avnet+Europe; ComponentLink5Description: https://datasheet.ciiva.com/16893/mc-pro-16893006.pdf?src-supplier=Avnet+Europe
footprint R0603
pins: 1, 2

## MCT06030C3300FP500
designator R?, comment 330  (value not drawn)
RES SMD 330 OHM 1% 1/8W 0603; Manufacturer 1: Vishay Beyschlag; Manufacturer Part Number 1: MCT06030C3300FP500; Resistance: 330R; Power Rating: 125mW; Voltage Rating: 75V; Temperature Coefficient: 50ppm/°C; Supplier 1: Digi-Key; Supplier Part Number 1: MCT0603-330-CFCT-ND; Stock 1: 133742; Pricing 1: 1=0.18000, 10=0.15200, 100=0.05960, 1000=0.02495, 2500=0.02287 (USD); RoHS: Yes; Case/Package: 0603; Case Code (Metric): 1608; Case Code (Imperial): 0603; Contact Plating: Tin; Min Operating Temperature: -55°C; Max Operating Temperature: 125°C; Package Quantity: 1; Tolerance: 1%; Packaging: Tape and Reel; Composition: Thin Film; Number of Terminations: 2; Military Standard: Not; Max Power Dissipation: 125mW; Voltage Rating (DC): 75V; Length: 0.061inch; Height: 0.022inch; Width: 0.033inch; Depth: 0.85mm; Radiation Hardening: No; REACH SVHC: No SVHC; Lead Free: Lead Free; ComponentLink1URL: https://datasheet.ciiva.com/2470/mc-pro-2470441.pdf?src-supplier=Digi-Key; ComponentLink1Description: https://datasheet.ciiva.com/2470/mc-pro-2470441.pdf?src-supplier=Digi-Key; ComponentLink2URL: https://datasheet.ciiva.com/2470/mc-pro-2470442.pdf?src-supplier=Digi-Key; ComponentLink2Description: https://datasheet.ciiva.com/2470/mc-pro-2470442.pdf?src-supplier=Digi-Key; ComponentLink3URL: https://datasheet.ciiva.com/2470/mc-pro-2470443.pdf?src-supplier=Digi-Key; ComponentLink3Description: https://datasheet.ciiva.com/2470/mc-pro-2470443.pdf?src-supplier=Digi-Key; ComponentLink4URL: https://datasheet.ciiva.com/16892/mc-pro-16892683.pdf?src-supplier=Avnet+Europe; ComponentLink4Description: https://datasheet.ciiva.com/16892/mc-pro-16892683.pdf?src-supplier=Avnet+Europe; ComponentLink5URL: https://datasheet.ciiva.com/8898/mc-pro-8898943.pdf?src-supplier=Avnet; ComponentLink5Description: https://datasheet.ciiva.com/8898/mc-pro-8898943.pdf?src-supplier=Avnet
footprint R0603
pins: 1, 2

## MCT06030E2002BP500
designator R, comment 20k  Supplier Part Number 1: 749-1747-1-ND
Res Thin Film 0603 20K Ohm 0.1% 0.1W(1/10W) ±15ppm/C Molded SMD Automotive Medical Paper T/R; Manufacturer 1: Vishay Semiconductors; Manufacturer Part Number 1: MCT06030E2002BP500; Resistance: 20kR; Temperature Coefficient: 15ppm/°C; Supplier 1: Digi-Key; Stock 1: 75960; Pricing 1: 1=0.70000, 10=0.58600, 100=0.39360, 1000=0.23128 (USD); RoHS: Yes; Case/Package: 0603; Contact Plating: Tin; Min Operating Temperature: -55°C; Max Operating Temperature: 125°C; Tolerance: 0.1%; Composition: Thin Film; Packaging: Tape and Reel; Military Standard: Not; Length: 1.55mm; Depth: 0.85mm; Radiation Hardening: No; Lead Free: Lead Free; ComponentLink1URL: https://datasheet.ciiva.com/17185/mc-pre-17185448.pdf?src-supplier=Avnet+Europe; ComponentLink1Description: https://datasheet.ciiva.com/17185/mc-pre-17185448.pdf?src-supplier=Avnet+Europe; ComponentLink2URL: https://datasheet.ciiva.com/8897/mc-pre-8897916.pdf?src-supplier=Avnet; ComponentLink2Description: https://datasheet.ciiva.com/8897/mc-pre-8897916.pdf?src-supplier=Avnet
footprint R0603
pins: 1, 2

## MIC29301-3.3WU-TR
designator U?
3.; Vendor: Microchip; Built_By: EMA_Molly; SourceLibrary: Microchip_2019-09-03; Manufacturer_Part_Number: MIC29301-3.3WU-TR; Copyright: Copyright (C) 2018 Accelerated Designs. All rights reserved; RefDes: RefDes; Type: DEV
footprint TO-263-5_MCH
pins: 1 EN (in), 2 IN (in), 3 GND (power), 4 OUT (out), 5 FLAG (out), 6

## MIC29301-5.0WU-TR
designator U?, comment 5V 3A  (value not drawn)
LDO Regulator Pos 5V 3A Automotive 6-Pin(5+Tab) TO-263 T/R; Manufacturer 1: Microchip; Manufacturer Part Number 1: MIC29301-5.0WU-TR; Supplier 1: Digi-Key; Supplier Part Number 1: MIC29301-5.0WU-CT-ND; RoHS: Yes; Category: Voltage Regulators - Linear; Stock 1: 1017; Pricing 1: 1=4.14000, 25=3.45000, 100=3.14000 (USD); ComponentLink1URL: https://datasheet.ciiva.com/16389/mic29150-16389820.pdf?src-supplier=Future+Electronics; ComponentLink1Description: https://datasheet.ciiva.com/16389/mic29150-16389820.pdf?src-supplier=Future+Electronics; ComponentLink2URL: https://datasheet.ciiva.com/2064/mic29150-2064680.pdf?src-supplier=Digi-Key; ComponentLink2Description: https://datasheet.ciiva.com/2064/mic29150-2064680.pdf?src-supplier=Digi-Key
footprint TO-263-5_MCH
pins: 1 EN (in), 2 IN (power), 3 GND (power), 4 OUT (power), 5 FLAG (out), 6

## OPA320AQDBVRQ1
designator U?, comment OPA320  (value not drawn)
General Purpose Amplifier Circuit Rail-to-Rail SOT-23-5; Manufacturer 1: Texas Instruments; Manufacturer Part Number 1: OPA325IDBVR; Stock 1: 2034; Pricing 1: 1=1.69000, 10=1.51600, 25=1.43000, 100=1.14400, 250=1.00100, 500=0.97240, 1000=0.77220 (USD); RoHS: No; Supplier 1: Digi-Key; Supplier Part Number 1: 296-29510-1-ND
footprint SOT-23-5
pins: 1 OUT "Noninverting amplifier output", 2 VS- (power) "Amplifier negative power-supply input. Note that VS- is tied together on multi-channel devices.", 3 +IN (in) "Noninverting amplifier input", 4 -IN (in) "Inverting amplifier input", 5 VS+ (power) "Amplifier positive power-supply input"

## OPA325IDBVR
designator U?, comment OPA325  (value not drawn)
Manufacturer 1: Texas Instruments; Manufacturer Part Number 1: OPA325IDBVR; Supplier 1: Digi-Key; Supplier Part Number 1: 296-OPA325IDBVRCT-ND; Stock 1: 2034; Pricing 1: 1=1.69000, 10=1.51600, 25=1.43000, 100=1.14400, 250=1.00100, 500=0.97240, 1000=0.77220 (USD); RoHS: No
footprint SOT-23-5
footprint SOT-23-5-ALT
pins: 1 OUT "Noninverting amplifier output", 2 VS- (power) "Amplifier negative power-supply input. Note that VS- is tied together on multi-channel devices.", 3 +IN (in) "Noninverting amplifier input", 4 -IN (in) "Inverting amplifier input", 5 VS+ (power) "Amplifier positive power-supply input"

## OPA2325
designator U?
ComponentLink1Description: OPA2325IDR; ComponentLink1URL: https://www.digikey.com/product-detail/en/texas-instruments/OPA2325IDR/296-45058-1-ND/6562060
footprint *SOIC127P600X175-8N
part A pins: 1 OUT A "Noninverting amplifier output", 2 -IN A (in) "Inverting amplifier input", 3 +IN A (in) "Noninverting amplifier input", 4 VS- (power) "Amplifier negative power-supply input. Note that VS- is tied together on multi-channel devices.", 8 VS+ (power) "Amplifier positive power-supply input"
part B pins: 5 +IN B (in) "Noninverting amplifier input", 6 -IN B (in) "Inverting amplifier input", 7 +IN B "Noninverting amplifier output"

## RASPI_4
designator J?, comment RasPi  (value not drawn)
Supplier 1: Digi-Key; Supplier Part Number 1: S6104-ND
footprint rpi; pin to pad 2>2+4
pins: 1 3V3, 2 5V, 3 GPIO2 (SDA1) (io), 5 GPIO3 (SCL1) (io), 6 GND, 7 GPIO4 (GPCLK0) (io), 8 GPIO14 (TXD0, UART) (io), 10 GPIO15(RXD0, UART) (io), 11 GPIO17 (io), 12 GPIO18 (PWM0) (io), 13 GPIO27 (io), 15 GPIO22 (io), 16 GPIO23 (io), 18 GPIO24 (io), 19 GPIO10 (SPI0_MOSI) (io), 21 GPIO9 (SPI0_MISO) (io), 22 GPIO25 (io), 23 GPIO11 (SPI0_CLK) (io), 24 GPIO8 (SPI0_CE0_N) (io), 26 GPIO7 (SPI0_CE_1_N) (io), 27 GPIO0 (ID_SD) (io), 28 GPIO1 (ID_SC) (io), 29 GPIO5 (io), 31 GPIO6 (io), 32 GPIO12 (PWM0) (io), 33 GPIO13 (PWM1) (io), 35 GPIO19 (io), 36 GPIO16 (io), 37 GPIO26 (io), 38 GPIO20 (io), 40 GPIO21 (io)

## RC0603JR-0710KL
designator R?, comment 10k
RES SMD 10K OHM 5% 1/10W 0603
footprint R0603
pins: 1, 2

## RP73PF1J121RBTDF
designator R?, comment 121  (value not drawn)
TE CONNECTIVITY         RP73PF1J121RBTDF             SMD Chip Resistor, Thin Film, 121 ohm, 100 V, 0603 [1608 Metric], 166 mW,  0.1%, RN73 Series; Resistance: 121R; Power Rating: 166mW; Voltage Rating: 100V; Max Power Dissipation: 167mW; Temperature Coefficient: 25ppm/°C; Supplier 1: Digi-Key; Supplier Part Number 1: A110020CT-ND; Manufacturer 1: TE Connectivity; Manufacturer Part Number 1: RP73PF1J121RBTDF; Stock 1: 850; Pricing 1: 1=0.66000, 10=0.48500, 100=0.28230 (USD); RoHS: Yes; Mount: Surface Mount; Case/Package: 0603; Case Code (Metric): 1608; Case Code (Imperial): 0603; Min Operating Temperature: -55°C; Max Operating Temperature: 155°C; Tolerance: 0.1%; Package Quantity: 1000; Packaging: Tape and Reel; Composition: Thin Film; Number of Terminations: 2; Termination: Solder; Voltage Rating (DC): 100V; Length: 0.061inch; Height: 0.022inch; Width: 0.031inch; Depth: 0.8mm; REACH SVHC: No SVHC; ComponentLink1URL: https://datasheet.ciiva.com/7801/1635325-7801605.pdf?src-supplier=Element14; ComponentLink1Description: https://datasheet.ciiva.com/7801/1635325-7801605.pdf?src-supplier=Element14; ComponentLink2URL: https://datasheet.ciiva.com/18601/eng-ds-1773272-j-18601303.pdf?src-supplier=Digi-Key; ComponentLink2Description: https://datasheet.ciiva.com/18601/eng-ds-1773272-j-18601303.pdf?src-supplier=Digi-Key; ComponentLink3URL: https://datasheet.ciiva.com/18601/eng-ds-1773272-j-18601304.pdf?src-supplier=Digi-Key; ComponentLink3Description: https://datasheet.ciiva.com/18601/eng-ds-1773272-j-18601304.pdf?src-supplier=Digi-Key; ComponentLink4URL: https://datasheet.ciiva.com/18601/eng-ds-1773272-j-18601305.pdf?src-supplier=Digi-Key; ComponentLink4Description: https://datasheet.ciiva.com/18601/eng-ds-1773272-j-18601305.pdf?src-supplier=Digi-Key
footprint R0603
pins: 1, 2

## RP73PF1J365RBTDF
designator R?, comment 365  (value not drawn)
TE CONNECTIVITY         RP73PF1J365RBTDF             SMD Chip Resistor, Thin Film, 365 ohm, 100 V, 0603 [1608 Metric], 166 mW,  0.1%; Power Rating: 166mW; Voltage Rating: 100V; Resistance: 365R; Max Power Dissipation: 167mW; Temperature Coefficient: 25ppm/°C; Supplier 1: Digi-Key; Supplier Part Number 1: A110066CT-ND; Manufacturer 1: TE Connectivity; Manufacturer Part Number 1: RP73PF1J365RBTDF; Stock 1: 473; Pricing 1: 1=0.53000, 10=0.39200, 100=0.22860 (USD); RoHS: Yes; Mount: Surface Mount; Case/Package: 0603; Case Code (Metric): 1608; Case Code (Imperial): 0603; Min Operating Temperature: -55°C; Max Operating Temperature: 155°C; Tolerance: 0.1%; Package Quantity: 1000; Packaging: Tape and Reel; Composition: Thin Film; Number of Terminations: 2; Termination: Solder; Voltage Rating (DC): 100V; Length: 0.061inch; Height: 0.022inch; Width: 0.031inch; Depth: 0.8mm; REACH SVHC: No SVHC; ComponentLink1URL: https://datasheet.ciiva.com/7801/1635325-7801831.pdf?src-supplier=Element14; ComponentLink1Description: https://datasheet.ciiva.com/7801/1635325-7801831.pdf?src-supplier=Element14; ComponentLink2URL: https://datasheet.ciiva.com/18601/eng-ds-1773272-j-18601591.pdf?src-supplier=Digi-Key; ComponentLink2Description: https://datasheet.ciiva.com/18601/eng-ds-1773272-j-18601591.pdf?src-supplier=Digi-Key; ComponentLink3URL: https://datasheet.ciiva.com/46440/1635325-46440343.pdf?src-supplier=Element14; ComponentLink3Description: https://datasheet.ciiva.com/46440/1635325-46440343.pdf?src-supplier=Element14; ComponentLink4URL: https://datasheet.ciiva.com/18601/eng-ds-1773272-j-18601592.pdf?src-supplier=Digi-Key; ComponentLink4Description: https://datasheet.ciiva.com/18601/eng-ds-1773272-j-18601592.pdf?src-supplier=Digi-Key; ComponentLink5URL: https://datasheet.ciiva.com/18601/eng-ds-1773272-j-18601593.pdf?src-supplier=Digi-Key; ComponentLink5Description: https://datasheet.ciiva.com/18601/eng-ds-1773272-j-18601593.pdf?src-supplier=Digi-Key
footprint R0603
pins: 1, 2

## RP73PF1J383RBTDF
designator R?, comment 383
RES SMD 383 OHM ±0.1% 0.167W, 1/6W Chip Resistor 0603 (1608 Metric) - Thin Film; Manufacturer 1: Vishay Dale; Manufacturer Part Number 1: TNPW060310K0BEEA; Resistance: 10kR; Tolerance: 1%; Temperature Coefficient: 25ppm/°C; Power Rating: 100mW; Voltage Rating: 75V; Stock 1: 296181; Pricing 1: 1=0.65000, 10=0.46200, 100=0.24020, 1000=0.12936, 2500=0.12760 (USD); RoHS: Yes; Mount: Surface Mount; Case/Package: 0603; Weight: 7.1E-05oz; Contact Plating: Tin; Case Code (Metric): 1608; Case Code (Imperial): 0603; Min Operating Temperature: -55°C; Max Operating Temperature: 125°C; Composition: Thin Film; Packaging: Tape and Reel; Package Quantity: 1; Number of Terminations: 2; Termination: SMD/SMT; Military Standard: Not; Max Power Dissipation: 100mW; Features: Moisture Resistant,Automotive AEC-Q200,Anti-Sulfur; Length: 1.6mm; Height: 0.022inch; Width: 0.033inch; Depth: 0.85mm; Radiation Hardening: No; REACH SVHC: Unknown; ComponentLink1URL: https://datasheet.ciiva.com/2483/tnpw-e3-2483253.pdf?src-supplier=Digi-Key; ComponentLink1Description: https://datasheet.ciiva.com/2483/tnpw-e3-2483253.pdf?src-supplier=Digi-Key; ComponentLink2URL: https://datasheet.ciiva.com/17190/tnpw-e3-17190917.pdf?src-supplier=Avnet+Europe; ComponentLink2Description: https://datasheet.ciiva.com/17190/tnpw-e3-17190917.pdf?src-supplier=Avnet+Europe; ComponentLink3URL: https://datasheet.ciiva.com/2483/tnpw-e3-2483254.pdf?src-supplier=Digi-Key; ComponentLink3Description: https://datasheet.ciiva.com/2483/tnpw-e3-2483254.pdf?src-supplier=Digi-Key; ComponentLink4URL: https://datasheet.ciiva.com/2483/tnpw-e3-2483255.pdf?src-supplier=Digi-Key; ComponentLink4Description: https://datasheet.ciiva.com/2483/tnpw-e3-2483255.pdf?src-supplier=Digi-Key; ComponentLink5URL: https://datasheet.ciiva.com/16335/tnpw-e3-16335132.pdf?src-supplier=Future+Electronics; ComponentLink5Description: https://datasheet.ciiva.com/16335/tnpw-e3-16335132.pdf?src-supplier=Future+Electronics; ComponentLink6URL: https://datasheet.ciiva.com/28589/1912606-28589004.pdf?src-supplier=Element14; ComponentLink6Description: https://datasheet.ciiva.com/28589/1912606-28589004.pdf?src-supplier=Element14; ComponentLink7URL: https://datasheet.ciiva.com/7792/tnpw-e3-7792477.pdf?src-supplier=Element14; ComponentLink7Description: https://datasheet.ciiva.com/7792/tnpw-e3-7792477.pdf?src-supplier=Element14; ComponentLink8URL: https://datasheet.ciiva.com/9050/tnpw-e3-9050974.pdf?src-supplier=Avnet; ComponentLink8Description: https://datasheet.ciiva.com/9050/tnpw-e3-9050974.pdf?src-supplier=Avnet; Supplier 1: Digi-Key; Supplier Part Number 1: A110068CT-ND
footprint R0603
pins: 1, 2

## RP73PF1J523RBTDF
designator R?, comment 523
RES SMD 523 OHM 0.1% 1/6W 0603; Manufacturer 1: Vishay Dale; Manufacturer Part Number 1: TNPW060310K0BEEA; Resistance: 10kR; Tolerance: 1%; Temperature Coefficient: 25ppm/°C; Power Rating: 100mW; Voltage Rating: 75V; Stock 1: 296181; Pricing 1: 1=0.65000, 10=0.46200, 100=0.24020, 1000=0.12936, 2500=0.12760 (USD); RoHS: Yes; Mount: Surface Mount; Case/Package: 0603; Weight: 7.1E-05oz; Contact Plating: Tin; Case Code (Metric): 1608; Case Code (Imperial): 0603; Min Operating Temperature: -55°C; Max Operating Temperature: 125°C; Composition: Thin Film; Packaging: Tape and Reel; Package Quantity: 1; Number of Terminations: 2; Termination: SMD/SMT; Military Standard: Not; Max Power Dissipation: 100mW; Features: Moisture Resistant,Automotive AEC-Q200,Anti-Sulfur; Length: 1.6mm; Height: 0.022inch; Width: 0.033inch; Depth: 0.85mm; Radiation Hardening: No; REACH SVHC: Unknown; ComponentLink1URL: https://datasheet.ciiva.com/2483/tnpw-e3-2483253.pdf?src-supplier=Digi-Key; ComponentLink1Description: https://datasheet.ciiva.com/2483/tnpw-e3-2483253.pdf?src-supplier=Digi-Key; ComponentLink2URL: https://datasheet.ciiva.com/17190/tnpw-e3-17190917.pdf?src-supplier=Avnet+Europe; ComponentLink2Description: https://datasheet.ciiva.com/17190/tnpw-e3-17190917.pdf?src-supplier=Avnet+Europe; ComponentLink3URL: https://datasheet.ciiva.com/2483/tnpw-e3-2483254.pdf?src-supplier=Digi-Key; ComponentLink3Description: https://datasheet.ciiva.com/2483/tnpw-e3-2483254.pdf?src-supplier=Digi-Key; ComponentLink4URL: https://datasheet.ciiva.com/2483/tnpw-e3-2483255.pdf?src-supplier=Digi-Key; ComponentLink4Description: https://datasheet.ciiva.com/2483/tnpw-e3-2483255.pdf?src-supplier=Digi-Key; ComponentLink5URL: https://datasheet.ciiva.com/16335/tnpw-e3-16335132.pdf?src-supplier=Future+Electronics; ComponentLink5Description: https://datasheet.ciiva.com/16335/tnpw-e3-16335132.pdf?src-supplier=Future+Electronics; ComponentLink6URL: https://datasheet.ciiva.com/28589/1912606-28589004.pdf?src-supplier=Element14; ComponentLink6Description: https://datasheet.ciiva.com/28589/1912606-28589004.pdf?src-supplier=Element14; ComponentLink7URL: https://datasheet.ciiva.com/7792/tnpw-e3-7792477.pdf?src-supplier=Element14; ComponentLink7Description: https://datasheet.ciiva.com/7792/tnpw-e3-7792477.pdf?src-supplier=Element14; ComponentLink8URL: https://datasheet.ciiva.com/9050/tnpw-e3-9050974.pdf?src-supplier=Avnet; ComponentLink8Description: https://datasheet.ciiva.com/9050/tnpw-e3-9050974.pdf?src-supplier=Avnet; Supplier 1: Digi-Key; Supplier Part Number 1: A110081CT-ND
footprint R0603
pins: 1, 2